# Altium footprint library Knopka.PcbLib: 58 footprints (part 3 of 4)
Each footprint in its own frame and in the unit in brackets; x right, y up, seen from the top. Pads: shape width x height; smd on the part's side, far side on the other; paste and mask are expansions set on the pad; w line width, h text height; cw(c..) or ccw(c..) is an arc to the next point about the centre after c.
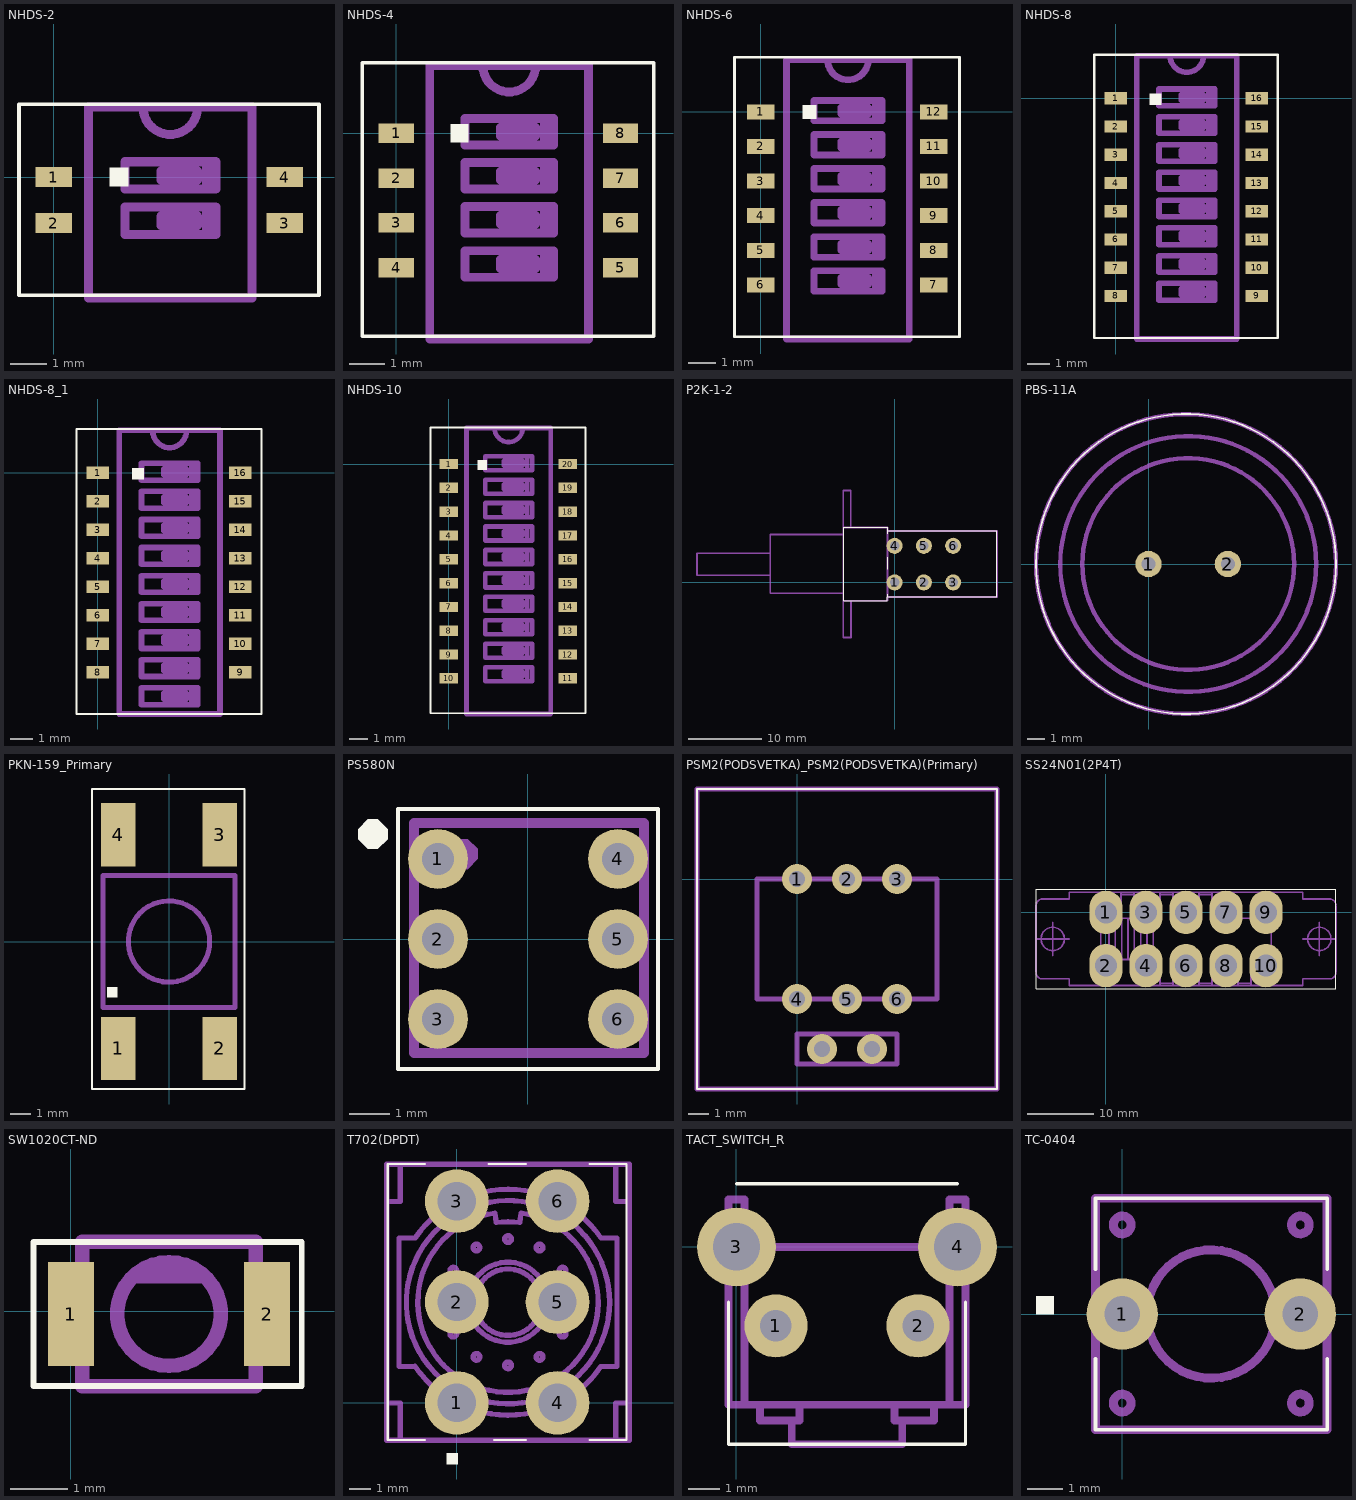
[diagram p2: the footprints below, top view; thin cyan lines are the x and y axes]

## NHDS-2 [mm]
pads (4):
  rect 1x0.55 smd: 1(0,0) 2(0,-1.27) 3(6.35,-1.27) 4(6.35,0)
Top Overlay:
  region: 1.54,0.25 1.54,-0.25 2.04,-0.25 2.04,0.25
  lines w0.1: -0.96,-3.25 7.29,-3.25 7.29,2 -0.96,2 -0.96,-3.25
Mechanical 1:
  lines w0.25: 2.45,1.92 ccw(c3.2,1.92) 3.95,1.92 ; 3.7,-1.33 3.7,-1.08 ; 3.7,-0.08 3.7,0.17 ; 4.2,-1.58 4.2,-0.83 ; 4.2,-0.33 4.2,0.42 ; 0.95,-3.33 5.45,-3.33 5.45,1.92 0.95,1.92 0.95,-3.33 ; 1.95,-1.58 4.45,-1.58 4.45,-0.83 1.95,-0.83 1.95,-1.58 ; 1.95,-0.33 4.45,-0.33 4.45,0.42 1.95,0.42 1.95,-0.33 ; 2.95,-1.33 3.95,-1.33 3.95,-1.08 2.95,-1.08 2.95,-1.33 ; 2.95,-0.08 3.95,-0.08 3.95,0.17 2.95,0.17 2.95,-0.08

## NHDS-4 [mm]
pads (8):
  rect 1x0.55 smd: 1(0,0) 2(0,-1.27) 3(0,-2.54) 4(0,-3.81) 5(6.35,-3.81) 6(6.35,-2.54) 7(6.35,-1.27) 8(6.35,0)
Top Overlay:
  region: 1.54,0.25 1.54,-0.25 2.04,-0.25 2.04,0.25
  lines w0.1: -0.96,-5.75 7.29,-5.75 7.29,2 -0.96,2 -0.96,-5.75
Mechanical 1:
  lines w0.25: 2.45,1.92 ccw(c3.2,1.92) 3.95,1.92 ; 3.7,-3.83 3.7,-3.58 ; 3.7,-2.58 3.7,-2.33 ; 3.7,-1.33 3.7,-1.08 ; 3.7,-0.08 3.7,0.17 ; 4.2,-4.08 4.2,-3.33 ; 4.2,-2.83 4.2,-2.08 ; 4.2,-1.58 4.2,-0.83 ; 4.2,-0.33 4.2,0.42 ; 0.95,-5.83 5.45,-5.83 5.45,1.92 0.95,1.92 0.95,-5.83 ; 1.95,-4.08 4.45,-4.08 4.45,-3.33 1.95,-3.33 1.95,-4.08 ; 1.95,-2.83 4.45,-2.83 4.45,-2.08 1.95,-2.08 1.95,-2.83 ; 1.95,-1.58 4.45,-1.58 4.45,-0.83 1.95,-0.83 1.95,-1.58 ; 1.95,-0.33 4.45,-0.33 4.45,0.42 1.95,0.42 1.95,-0.33 ; 2.95,-3.83 3.95,-3.83 3.95,-3.58 2.95,-3.58 2.95,-3.83 ; 2.95,-2.58 3.95,-2.58 3.95,-2.33 2.95,-2.33 2.95,-2.58 ; 2.95,-1.33 3.95,-1.33 3.95,-1.08 2.95,-1.08 2.95,-1.33 ; 2.95,-0.08 3.95,-0.08 3.95,0.17 2.95,0.17 2.95,-0.08

## NHDS-6 [mm]
pads (12):
  rect 1x0.55 smd: 1(0,0) 2(0,-1.27) 3(0,-2.54) 4(0,-3.81) 5(0,-5.08) 6(0,-6.35) 7(6.35,-6.35) 8(6.35,-5.08) 9(6.35,-3.81) 10(6.35,-2.54) 11(6.35,-1.27) 12(6.35,0)
Top Overlay:
  region: 1.54,0.25 1.54,-0.25 2.04,-0.25 2.04,0.25
  lines w0.1: -0.96,-8.25 7.29,-8.25 7.29,2 -0.96,2 -0.96,-8.25
Mechanical 1:
  lines w0.25: 2.45,1.92 ccw(c3.2,1.92) 3.95,1.92 ; 3.7,-6.33 3.7,-6.08 ; 3.7,-5.08 3.7,-4.83 ; 3.7,-3.83 3.7,-3.58 ; 3.7,-2.58 3.7,-2.33 ; 3.7,-1.33 3.7,-1.08 ; 3.7,-0.08 3.7,0.17 ; 4.2,-6.58 4.2,-5.83 ; 4.2,-5.33 4.2,-4.58 ; 4.2,-4.08 4.2,-3.33 ; 4.2,-2.83 4.2,-2.08 ; 4.2,-1.58 4.2,-0.83 ; 4.2,-0.33 4.2,0.42 ; 0.95,-8.33 5.45,-8.33 5.45,1.92 0.95,1.92 0.95,-8.33 ; 1.95,-6.58 4.45,-6.58 4.45,-5.83 1.95,-5.83 1.95,-6.58 ; 1.95,-5.33 4.45,-5.33 4.45,-4.58 1.95,-4.58 1.95,-5.33 ; 1.95,-4.08 4.45,-4.08 4.45,-3.33 1.95,-3.33 1.95,-4.08 ; 1.95,-2.83 4.45,-2.83 4.45,-2.08 1.95,-2.08 1.95,-2.83 ; 1.95,-1.58 4.45,-1.58 4.45,-0.83 1.95,-0.83 1.95,-1.58 ; 1.95,-0.33 4.45,-0.33 4.45,0.42 1.95,0.42 1.95,-0.33 ; 2.95,-6.33 3.95,-6.33 3.95,-6.08 2.95,-6.08 2.95,-6.33 ; 2.95,-5.08 3.95,-5.08 3.95,-4.83 2.95,-4.83 2.95,-5.08 ; 2.95,-3.83 3.95,-3.83 3.95,-3.58 2.95,-3.58 2.95,-3.83 ; 2.95,-2.58 3.95,-2.58 3.95,-2.33 2.95,-2.33 2.95,-2.58 ; 2.95,-1.33 3.95,-1.33 3.95,-1.08 2.95,-1.08 2.95,-1.33 ; 2.95,-0.08 3.95,-0.08 3.95,0.17 2.95,0.17 2.95,-0.08

## NHDS-8 [mm]
pads (16):
  rect 1x0.55 smd: 1(0,0) 2(0,-1.27) 3(0,-2.54) 4(0,-3.81) 5(0,-5.08) 6(0,-6.35) 7(0,-7.62) 8(0,-8.89) 9(6.35,-8.89) 10(6.35,-7.62) 11(6.35,-6.35) 12(6.35,-5.08) 13(6.35,-3.81) 14(6.35,-2.54) 15(6.35,-1.27) 16(6.35,0)
Top Overlay:
  region: 1.54,0.21 1.54,-0.29 2.04,-0.29 2.04,0.21
  lines w0.1: -0.96,-10.79 7.29,-10.79 7.29,1.96 -0.96,1.96 -0.96,-10.79
Mechanical 1:
  lines w0.25: 2.45,1.92 ccw(c3.2,1.92) 3.95,1.92 ; 3.7,-8.83 3.7,-8.58 ; 3.7,-7.58 3.7,-7.33 ; 3.7,-6.33 3.7,-6.08 ; 3.7,-5.08 3.7,-4.83 ; 3.7,-3.83 3.7,-3.58 ; 3.7,-2.58 3.7,-2.33 ; 3.7,-1.33 3.7,-1.08 ; 3.7,-0.08 3.7,0.17 ; 4.2,-9.08 4.2,-8.33 ; 4.2,-7.83 4.2,-7.08 ; 4.2,-6.58 4.2,-5.83 ; 4.2,-5.33 4.2,-4.58 ; 4.2,-4.08 4.2,-3.33 ; 4.2,-2.83 4.2,-2.08 ; 4.2,-1.58 4.2,-0.83 ; 4.2,-0.33 4.2,0.42 ; 0.95,-10.83 5.45,-10.83 5.45,1.92 0.95,1.92 0.95,-10.83 ; 1.95,-9.08 4.45,-9.08 4.45,-8.33 1.95,-8.33 1.95,-9.08 ; 1.95,-7.83 4.45,-7.83 4.45,-7.08 1.95,-7.08 1.95,-7.83 ; 1.95,-6.58 4.45,-6.58 4.45,-5.83 1.95,-5.83 1.95,-6.58 ; 1.95,-5.33 4.45,-5.33 4.45,-4.58 1.95,-4.58 1.95,-5.33 ; 1.95,-4.08 4.45,-4.08 4.45,-3.33 1.95,-3.33 1.95,-4.08 ; 1.95,-2.83 4.45,-2.83 4.45,-2.08 1.95,-2.08 1.95,-2.83 ; 1.95,-1.58 4.45,-1.58 4.45,-0.83 1.95,-0.83 1.95,-1.58 ; 1.95,-0.33 4.45,-0.33 4.45,0.42 1.95,0.42 1.95,-0.33 ; 2.95,-8.83 3.95,-8.83 3.95,-8.58 2.95,-8.58 2.95,-8.83 ; 2.95,-7.58 3.95,-7.58 3.95,-7.33 2.95,-7.33 2.95,-7.58 ; 2.95,-6.33 3.95,-6.33 3.95,-6.08 2.95,-6.08 2.95,-6.33 ; 2.95,-5.08 3.95,-5.08 3.95,-4.83 2.95,-4.83 2.95,-5.08 ; 2.95,-3.83 3.95,-3.83 3.95,-3.58 2.95,-3.58 2.95,-3.83 ; 2.95,-2.58 3.95,-2.58 3.95,-2.33 2.95,-2.33 2.95,-2.58 ; 2.95,-1.33 3.95,-1.33 3.95,-1.08 2.95,-1.08 2.95,-1.33 ; 2.95,-0.08 3.95,-0.08 3.95,0.17 2.95,0.17 2.95,-0.08

## NHDS-8_1 [mm]
pads (16):
  rect 1x0.55 smd: 1(0,0) 2(0,-1.27) 3(0,-2.54) 4(0,-3.81) 5(0,-5.08) 6(0,-6.35) 7(0,-7.62) 8(0,-8.89) 9(6.35,-8.89) 10(6.35,-7.62) 11(6.35,-6.35) 12(6.35,-5.08) 13(6.35,-3.81) 14(6.35,-2.54) 15(6.35,-1.27) 16(6.35,0)
Top Overlay:
  region: 1.54,0.21 1.54,-0.29 2.04,-0.29 2.04,0.21
  lines w0.1: -0.95,-10.75 7.3,-10.75 7.3,1.95 -0.95,1.95 -0.95,-10.75
Mechanical 1:
  lines w0.25: 2.45,1.87 ccw(c3.2,1.87) 3.95,1.87 ; 3.7,-10.08 3.7,-9.83 ; 3.7,-8.83 3.7,-8.58 ; 3.7,-7.58 3.7,-7.33 ; 3.7,-6.33 3.7,-6.08 ; 3.7,-5.08 3.7,-4.83 ; 3.7,-3.83 3.7,-3.58 ; 3.7,-2.58 3.7,-2.33 ; 3.7,-1.33 3.7,-1.08 ; 3.7,-0.08 3.7,0.17 ; 4.2,-10.33 4.2,-9.58 ; 4.2,-9.08 4.2,-8.33 ; 4.2,-7.83 4.2,-7.08 ; 4.2,-6.58 4.2,-5.83 ; 4.2,-5.33 4.2,-4.58 ; 4.2,-4.08 4.2,-3.33 ; 4.2,-2.83 4.2,-2.08 ; 4.2,-1.58 4.2,-0.83 ; 4.2,-0.33 4.2,0.42 ; 0.95,-10.75 5.45,-10.75 5.45,1.9 0.95,1.9 0.95,-10.75 ; 1.95,-10.33 4.45,-10.33 4.45,-9.58 1.95,-9.58 1.95,-10.33 ; 1.95,-9.08 4.45,-9.08 4.45,-8.33 1.95,-8.33 1.95,-9.08 ; 1.95,-7.83 4.45,-7.83 4.45,-7.08 1.95,-7.08 1.95,-7.83 ; 1.95,-6.58 4.45,-6.58 4.45,-5.83 1.95,-5.83 1.95,-6.58 ; 1.95,-5.33 4.45,-5.33 4.45,-4.58 1.95,-4.58 1.95,-5.33 ; 1.95,-4.08 4.45,-4.08 4.45,-3.33 1.95,-3.33 1.95,-4.08 ; 1.95,-2.83 4.45,-2.83 4.45,-2.08 1.95,-2.08 1.95,-2.83 ; 1.95,-1.58 4.45,-1.58 4.45,-0.83 1.95,-0.83 1.95,-1.58 ; 1.95,-0.33 4.45,-0.33 4.45,0.42 1.95,0.42 1.95,-0.33 ; 2.95,-10.08 3.95,-10.08 3.95,-9.83 2.95,-9.83 2.95,-10.08 ; 2.95,-8.83 3.95,-8.83 3.95,-8.58 2.95,-8.58 2.95,-8.83 ; 2.95,-7.58 3.95,-7.58 3.95,-7.33 2.95,-7.33 2.95,-7.58 ; 2.95,-6.33 3.95,-6.33 3.95,-6.08 2.95,-6.08 2.95,-6.33 ; 2.95,-5.08 3.95,-5.08 3.95,-4.83 2.95,-4.83 2.95,-5.08 ; 2.95,-3.83 3.95,-3.83 3.95,-3.58 2.95,-3.58 2.95,-3.83 ; 2.95,-2.58 3.95,-2.58 3.95,-2.33 2.95,-2.33 2.95,-2.58 ; 2.95,-1.33 3.95,-1.33 3.95,-1.08 2.95,-1.08 2.95,-1.33 ; 2.95,-0.08 3.95,-0.08 3.95,0.17 2.95,0.17 2.95,-0.08

## NHDS-10 [mm]
pads (20):
  rect 1x0.55 smd: 1(0,0) 2(0,-1.27) 3(0,-2.54) 4(0,-3.81) 5(0,-5.08) 6(0,-6.35) 7(0,-7.62) 8(0,-8.89) 9(0,-10.16) 10(0,-11.43) 11(6.35,-11.43) 12(6.35,-10.16) 13(6.35,-8.89) 14(6.35,-7.62) 15(6.35,-6.35) 16(6.35,-5.08) 17(6.35,-3.81) 18(6.35,-2.54) 19(6.35,-1.27) 20(6.35,0)
Top Overlay:
  region: 1.54,0.21 1.54,-0.29 2.04,-0.29 2.04,0.21
  lines w0.1: -0.96,-13.29 7.29,-13.29 7.29,1.96 -0.96,1.96 -0.96,-13.29
Mechanical 1:
  lines w0.25: 2.45,1.92 ccw(c3.2,1.92) 3.95,1.92 ; 3.7,-11.33 3.7,-11.08 ; 3.7,-10.08 3.7,-9.83 ; 3.7,-8.83 3.7,-8.58 ; 3.7,-7.58 3.7,-7.33 ; 3.7,-6.33 3.7,-6.08 ; 3.7,-5.08 3.7,-4.83 ; 3.7,-3.83 3.7,-3.58 ; 3.7,-2.58 3.7,-2.33 ; 3.7,-1.33 3.7,-1.08 ; 3.7,-0.08 3.7,0.17 ; 4.2,-11.58 4.2,-10.83 ; 4.2,-10.33 4.2,-9.58 ; 4.2,-9.08 4.2,-8.33 ; 4.2,-7.83 4.2,-7.08 ; 4.2,-6.58 4.2,-5.83 ; 4.2,-5.33 4.2,-4.58 ; 4.2,-4.08 4.2,-3.33 ; 4.2,-2.83 4.2,-2.08 ; 4.2,-1.58 4.2,-0.83 ; 4.2,-0.33 4.2,0.42 ; 0.95,-13.33 5.45,-13.33 5.45,1.92 0.95,1.92 0.95,-13.33 ; 1.95,-11.58 4.45,-11.58 4.45,-10.83 1.95,-10.83 1.95,-11.58 ; 1.95,-10.33 4.45,-10.33 4.45,-9.58 1.95,-9.58 1.95,-10.33 ; 1.95,-9.08 4.45,-9.08 4.45,-8.33 1.95,-8.33 1.95,-9.08 ; 1.95,-7.83 4.45,-7.83 4.45,-7.08 1.95,-7.08 1.95,-7.83 ; 1.95,-6.58 4.45,-6.58 4.45,-5.83 1.95,-5.83 1.95,-6.58 ; 1.95,-5.33 4.45,-5.33 4.45,-4.58 1.95,-4.58 1.95,-5.33 ; 1.95,-4.08 4.45,-4.08 4.45,-3.33 1.95,-3.33 1.95,-4.08 ; 1.95,-2.83 4.45,-2.83 4.45,-2.08 1.95,-2.08 1.95,-2.83 ; 1.95,-1.58 4.45,-1.58 4.45,-0.83 1.95,-0.83 1.95,-1.58 ; 1.95,-0.33 4.45,-0.33 4.45,0.42 1.95,0.42 1.95,-0.33 ; 2.95,-11.33 3.95,-11.33 3.95,-11.08 2.95,-11.08 2.95,-11.33 ; 2.95,-10.08 3.95,-10.08 3.95,-9.83 2.95,-9.83 2.95,-10.08 ; 2.95,-8.83 3.95,-8.83 3.95,-8.58 2.95,-8.58 2.95,-8.83 ; 2.95,-7.58 3.95,-7.58 3.95,-7.33 2.95,-7.33 2.95,-7.58 ; 2.95,-6.33 3.95,-6.33 3.95,-6.08 2.95,-6.08 2.95,-6.33 ; 2.95,-5.08 3.95,-5.08 3.95,-4.83 2.95,-4.83 2.95,-5.08 ; 2.95,-3.83 3.95,-3.83 3.95,-3.58 2.95,-3.58 2.95,-3.83 ; 2.95,-2.58 3.95,-2.58 3.95,-2.33 2.95,-2.33 2.95,-2.58 ; 2.95,-1.33 3.95,-1.33 3.95,-1.08 2.95,-1.08 2.95,-1.33 ; 2.95,-0.08 3.95,-0.08 3.95,0.17 2.95,0.17 2.95,-0.08

## P2K-1-2 [mm]
pads (6):
  round 2.2 hole 1.3: 1(0,0) 2(4,0) 3(8,0) 4(0,5) 5(4,5) 6(8,5)
Top Overlay:
  lines w0.1: -0.954,-1.602 -0.954,-1.958 13.936,-1.958 13.936,7.062 -0.878,7.062 -0.928,7.062 -0.928,6.631 ; -0.954,1.803 -0.954,3.429 ; -0.946,-1.983 -1.022,-1.983 -1.022,-2.474 -1.022,-2.512 -6.958,-2.512 -6.958,7.432 -6.958,7.508 -0.946,7.508 -0.946,7.092
Mechanical 1:
  lines w0.25: -16.993,0.991 -26.949,0.991 -26.949,3.988 -16.993,3.988 ; -7.061,6.528 -16.967,6.528 -16.967,-1.473 -7.01,-1.473 ; -7.01,-2.489 -0.965,-2.489 -0.965,7.493 -6.96,7.493 ; -5.969,7.493 -5.969,12.522 -7.01,12.522 -7.01,-7.493 -5.944,-7.493 -5.944,-2.515 ; -0.965,-1.981 13.97,-1.981 13.97,7.036 -0.965,7.036

## PBS-11A [mm]
pads (2):
  round 1.5 hole 0.8: 1(0,0) 2(4.5,0)
Top Overlay:
  lines w0.1: -6.375,0 cw(c2.125,0) 10.625,0 cw(c2.125,0) -6.375,0
Mechanical 1:
  lines w0.25: -6.375,0 cw(c2.125,0) 10.625,0 cw(c2.125,0) -6.375,0 ; -5,0 cw(c2.25,0) 9.5,0 cw(c2.25,0) -5,0 ; -3.75,0 cw(c2.25,0) 8.25,0 cw(c2.25,0) -3.75,0

## PKN-159_Primary [mm]
pads (4):
  rect 1.7x3.1 smd: 1(-2.5,-5.25) 2(2.5,-5.25) 3(2.5,5.25) 4(-2.5,5.25)
Top Overlay:
  region: -3.04,-2.25 -3.04,-2.75 -2.54,-2.75 -2.54,-2.25
  lines w0.1: -3.79,-7.25 3.71,-7.25 3.71,7.5 -3.79,7.5 -3.79,-7.25
Mechanical 1:
  circle w0.25: c0,0 r2
  lines w0.25: -3.25,-3.25 3.25,-3.25 3.25,3.25 -3.25,3.25 -3.25,-3.25

## PS580N [mm]
pads (6):
  round 1.5 hole 0.8: 1(-2.25,2) 2(-2.25,0) 3(-2.25,-2) 4(2.25,2) 5(2.25,0) 6(2.25,-2)
Top Overlay:
  region: -4.25,2.5 -4,2.25 -3.75,2.25 -3.5,2.5 -3.5,2.75 -3.75,3 -4,3 -4.25,2.75
  lines w0.1: -3.25,-3.25 3.25,-3.25 3.25,3.25 -3.25,3.25 -3.25,-3.25
Mechanical 1:
  region: -2,2 -1.75,1.75 -1.5,1.75 -1.25,2 -1.25,2.25 -1.5,2.5 -1.75,2.5 -2,2.25
  lines w0.25: -2.85,-2.85 2.9,-2.85 2.9,2.9 -2.85,2.9 -2.85,-2.85

## PSM2(PODSVETKA)_PSM2(PODSVETKA)(Primary) [mm]
pads (8):
  round 1.5 hole 0.8: 1(0,0) 2(2.5,0) 3(5,0) 4(0,-6) 5(2.5,-6) 6(5,-6) LED_MINUS(3.75,-8.5) LED_PLUS(1.25,-8.5)
Top Overlay:
  lines w0.1: -5,-10.5 10,-10.5 10,4.5 -5,4.5 -5,-10.5
Mechanical 1:
  lines w0.25: -5,-10.5 10,-10.5 10,4.5 -5,4.5 -5,-10.5 ; -2,-6 2.5,-6 7,-6 7,0 2.5,0 -2,0 -2,-3 -2,-6 ; 0,-9.25 2.5,-9.25 5,-9.25 5,-7.75 2.5,-7.75 0,-7.75 0,-9.25

## SS24N01(2P4T) [mm]
pads (10):
  oval 5x6.5 hole 3.3: 1(0,0) 2(0,-8) 3(6,0) 4(6,-8) 5(12,0) 6(12,-8) 7(18,0) 8(18,-8) 9(24,0) 10(24,-8)
Top Overlay:
  lines w0.1: -10.5,-11.5 0,-11.5 21.5,-11.5 34.5,-11.5 34.5,3.5 -10.5,3.5 -10.5,3 -10.5,-11.5
Mechanical 1:
  circle w0.25: c32.005,-3.988 r1.75
  circle w0.25: c-7.995,-3.988 r1.75
  lines w0.25: -10.495,-8.988 -10.495,-3.988 ; -10.495,-8.986 ccw(c-9.495,-8.988) -9.497,-9.988 ; -10.495,1.012 -10.495,-3.988 ; -10.495,1.014 cw(c-9.495,1.012) -9.494,2.012 ; -9.495,-9.988 -5.495,-9.988 -5.495,-10.988 12.005,-10.988 29.505,-10.988 29.505,-9.988 33.505,-9.988 ccw(c33.505,-8.988) 34.505,-8.988 34.505,-3.988 ; -9.495,2.012 -5.495,2.012 -5.495,3.012 12.005,3.012 29.505,3.012 29.505,2.012 33.505,2.012 cw(c33.505,1.012) 34.505,1.012 34.505,-3.988 ; -7.995,-6.488 -7.995,-1.488 ; -5.495,-3.988 -10.495,-3.988 ; 0.449,-7.088 0.449,-0.888 ; 1.4,-7.088 1.4,-0.888 5.204,-0.888 5.204,-7.088 ; 2.255,2.681 4.205,2.681 ; 2.255,3.012 2.255,-0.488 cw(c1.855,-0.488) 1.855,-0.888 -0.795,-0.888 -0.795,-3.988 -0.795,-7.088 7.705,-7.088 cw(c7.705,-7.488) 8.105,-7.488 8.105,-10.988 ; 2.351,-7.088 2.351,-0.888 ; 3.302,-7.088 3.302,-0.888 ; 4.205,3.012 4.205,-0.488 ccw(c4.605,-0.488) 4.605,-0.888 7.705,-0.888 ccw(c7.705,-0.488) 8.105,-0.488 8.105,3.012 ; 4.253,-7.088 4.253,-0.888 ; 6.155,-7.088 6.155,-0.888 ; 7.106,-7.088 7.106,-0.888 ; 8.105,-10.657 10.055,-10.657 ; 8.105,2.681 10.055,2.681 ; 10.055,-10.988 10.055,-7.488 ; 10.055,-7.487 cw(c10.455,-7.488) 10.455,-7.088 13.555,-7.088 cw(c13.555,-7.488) 13.955,-7.488 13.955,-10.988 ; 10.055,3.012 10.055,-0.488 ccw(c10.455,-0.488) 10.455,-0.888 12.005,-0.888 13.555,-0.888 ; 13.554,-0.888 ccw(c13.555,-0.488) 13.955,-0.488 ; 13.955,-10.657 15.905,-10.657 ; 13.955,-0.488 13.955,3.012 ; 13.955,2.681 15.905,2.681 ; 15.905,-10.988 15.905,-7.488 cw(c16.305,-7.488) 16.305,-7.088 19.405,-7.088 cw(c19.405,-7.488) 19.805,-7.488 19.805,-10.988 ; 15.905,3.012 15.905,-0.488 ccw(c16.305,-0.488) 16.304,-0.888 24.805,-0.888 24.805,-3.988 24.805,-7.088 22.155,-7.088 ccw(c22.155,-7.488) 21.755,-7.488 21.755,-10.988 ; 19.805,-10.657 21.755,-10.657 ; 29.505,-3.988 34.505,-3.988 ; 32.005,-6.488 32.005,-1.488

## SW1020CT-ND [mm]
pads (2):
  rect 0.8x1.8 smd: 1(0,-0.05) 2(3.4,-0.05)
Top Overlay:
  lines w0.1: -0.65,-1.3 4,-1.3 4,1.2 -0.65,1.2 -0.65,-1.3
Mechanical 1:
  lines w0.25: 1.1,0.6 2.3,0.6 ; 0.2,-1.3 3.2,-1.3 3.2,1.2 0.2,1.2 0.2,-1.3 ; 1.7,-0.95 ccw(c1.7,-0.05) 1.7,0.85 ccw(c1.7,-0.05) 1.7,-0.95

## T702(DPDT) [mm]
pads (6):
  round 3 hole 1.8: 1(0,0) 2(0,4.75) 3(0,9.5) 4(4.75,0) 5(4.75,4.75) 6(4.75,9.5)
Top Overlay:
  region: -0.46,-2.88 0.04,-2.88 0.04,-2.38 -0.46,-2.38
  lines w0.1: -1.5,-1.75 -3.25,-1.75 -3.25,11.25 -1.5,11.25 ; 1.5,11.25 3.25,11.25 ; 1.75,-1.75 3.25,-1.75 ; 6.25,-1.75 8,-1.75 8,11.25 6.25,11.25
Mechanical 1:
  circle w0.25: c2.415,4.741 r4.788
  circle w0.25: c2.415,4.741 r1.886
  circle w0.25: c2.415,4.741 r1.568
  circle w0.25: c2.415,7.715 r0.155
  circle w0.25: c2.415,1.767 r0.155
  circle w0.25: c8.13,9.487 r0.006
  circle w0.25: c3.902,7.316 r0.155
  circle w0.25: c4.99,6.228 r0.155
  circle w0.25: c8.13,-0.005 r0.006
  circle w0.25: c5.388,4.741 r0.155
  circle w0.25: c4.99,3.254 r0.155
  circle w0.25: c3.902,2.166 r0.155
  circle w0.25: c-3.3,9.487 r0.006
  circle w0.25: c-0.161,6.228 r0.155
  circle w0.25: c0.928,7.316 r0.155
  circle w0.25: c-3.3,-0.005 r0.006
  circle w0.25: c-0.161,3.254 r0.155
  circle w0.25: c0.928,2.166 r0.155
  circle w0.25: c-0.559,4.741 r0.155
  lines w0.25: -3.3,-0.005 -2.659,-0.005 -2.659,-1.759 ; -3.3,9.487 -2.659,9.487 -2.659,11.241 ; -1.965,1.72 ccw(c2.415,4.741) 6.789,1.712 ; -1.962,1.717 -2.723,1.717 -2.723,4.741 -2.723,7.765 -1.962,7.765 ; -1.959,7.77 cw(c2.415,4.741) 6.794,7.762 ; 1.8,8.942 1.866,8.492 ; 1.802,8.943 ccw(c2.415,4.741) 3.035,8.942 ; 1.867,8.492 cw(c2.415,4.741) 2.969,8.491 ; 2.964,8.492 3.03,8.942 ; 6.792,1.717 7.553,1.717 7.553,4.741 7.553,7.765 6.792,7.765 ; 7.489,-1.759 7.489,-0.005 8.13,-0.005 ; 7.489,11.241 7.489,9.487 8.13,9.487 ; -3.3,-1.759 8.13,-1.759 8.13,11.241 -3.3,11.241 -3.3,-1.759

## TACT_SWITCH_R [mm]
pads (4):
  round 2 hole 1: 1(1.25,-2.5) 2(5.75,-2.5)
  round 2.5 hole 1.5: 3(0,0) 4(7,0)
Top Overlay:
  lines w0.1: -0.25,-1.75 -0.25,-6.25 7.25,-6.25 7.25,-1.75 ; 0,2 7,2
Mechanical 1:
  lines w0.25: -0.25,0 -0.5,0 -0.5,0.25 -0.25,0.25 ; 0.75,-5 0.75,-5.5 2,-5.5 2,-5 ; 1.75,-5.5 1.75,-6.25 5.25,-6.25 5.25,-5.5 ; 5,-5 5,-5.5 6.25,-5.5 6.25,-5 ; 7.25,0 7.5,0 7.5,0.25 7.25,0.25 ; 0.25,-5 3.5,-5 6.75,-5 ; 0.25,-5 0.25,0 ; 0.25,-5 -0.25,-5 -0.25,-2.5 -0.25,1.5 0.25,1.5 0.25,0 ; 0.25,0 6.75,0 ; 6.75,-5 6.75,0 ; 6.75,-5 7.25,-5 7.25,1.5 6.75,1.5 6.75,0

## TC-0404 [mm]
pads (2):
  round 2 hole 1: 1(0,0) 2(5,0)
Top Overlay:
  region: -1.92,0.5 -2.42,0.5 -2.42,0 -1.92,0
  lines w0.1: -0.75,-1.25 -0.75,-3.25 5.75,-3.25 5.75,-1.25 ; -0.75,1.25 -0.75,3.25 5.75,3.25 5.75,1.25
Mechanical 1:
  circle w0.25: c2.5,0 r1.8
  circle w0.25: c5,2.5 r0.25
  circle w0.25: c5,-2.5 r0.25
  circle w0.25: c0,2.5 r0.25
  circle w0.25: c0,-2.5 r0.25
  lines w0.25: -0.75,-3.25 5.75,-3.25 5.75,3.25 -0.75,3.25 -0.75,-3.25